# Altium footprint library PLCC.PcbLib: 10 footprints
Each footprint in its own frame and in the unit in brackets; x right, y up, seen from the top. Pads: shape width x height; smd on the part's side, far side on the other; paste and mask are expansions set on the pad; w line width, h text height; cw(c..) or ccw(c..) is an arc to the next point about the centre after c.
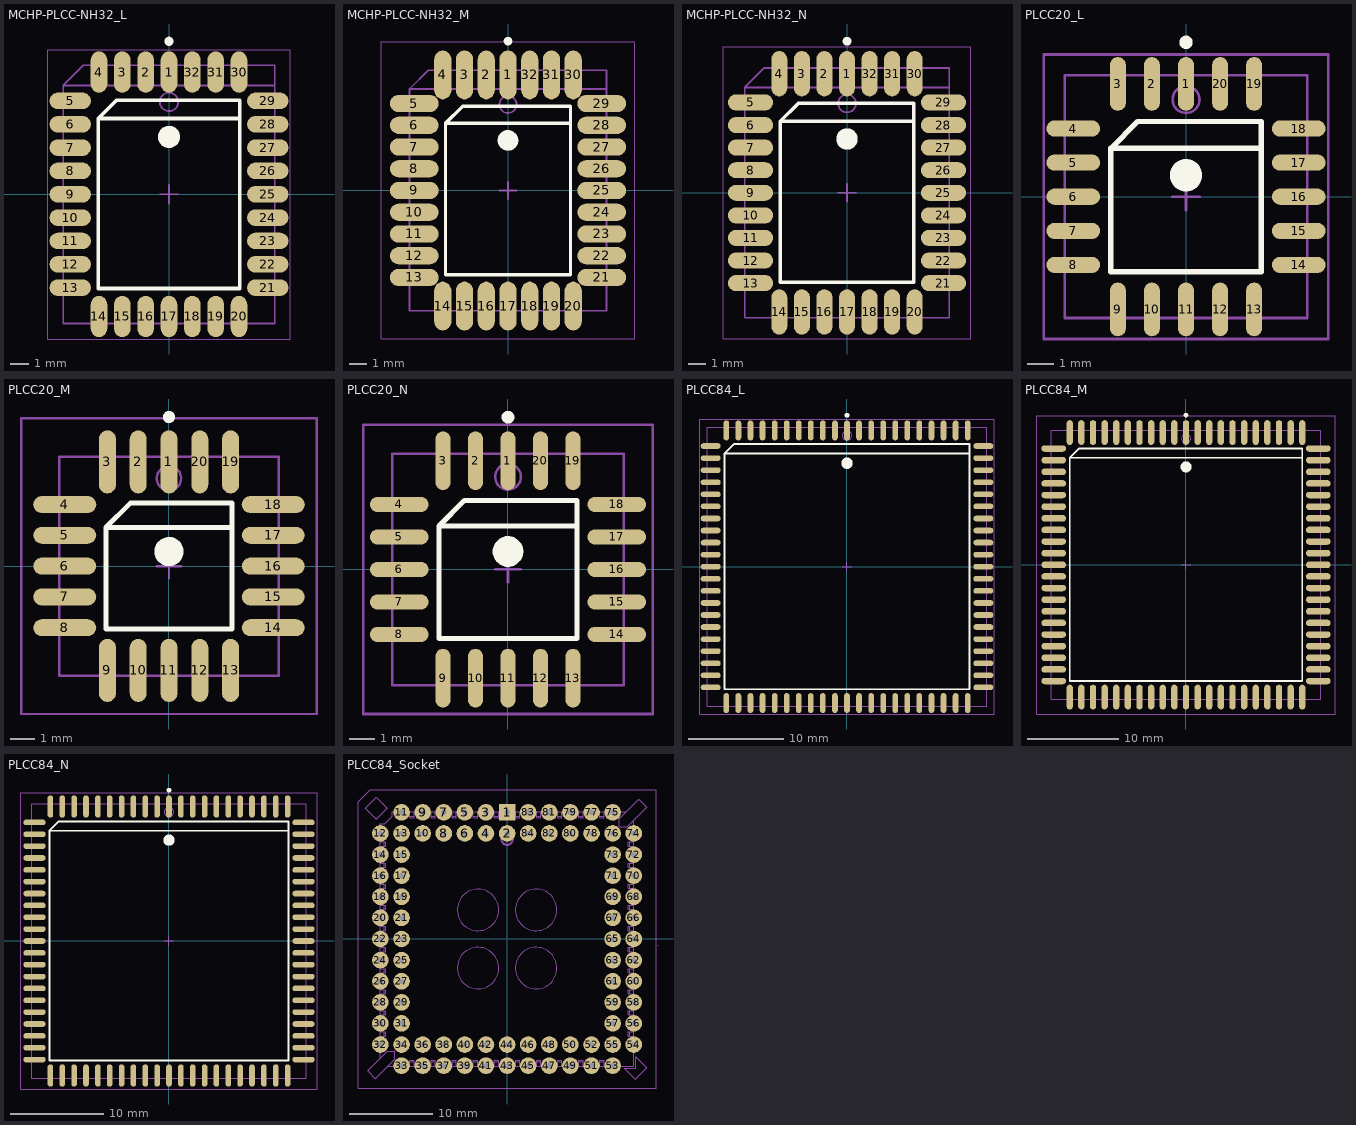
[diagram p0: the footprints below, top view; thin cyan lines are the x and y axes]

## MCHP-PLCC-NH32_L [mm] "PLCC, 32-Leads, Body 13.97x11.43mm, Pitch 1.27mm, IPC High Density"
height 3.56
pads (32):
  oval 0.9x2.25 smd: 1(0,6.65) 2(-1.27,6.65) 3(-2.54,6.65) 4(-3.81,6.65) 14(-3.81,-6.65) 15(-2.54,-6.65) 16(-1.27,-6.65) 17(0,-6.65) 18(1.27,-6.65) 19(2.54,-6.65) 20(3.81,-6.65) 30(3.81,6.65) 31(2.54,6.65) 32(1.27,6.65)
  oval 2.25x0.9 smd: 5(-5.375,5.08) 6(-5.375,3.81) 7(-5.375,2.54) 8(-5.375,1.27) 9(-5.375,0) 10(-5.375,-1.27) 11(-5.375,-2.54) 12(-5.375,-3.81) 13(-5.375,-5.08) 21(5.375,-5.08) 22(5.375,-3.81) 23(5.375,-2.54) 24(5.375,-1.27) 25(5.375,0) 26(5.375,1.27) 27(5.375,2.54) 28(5.375,3.81) 29(5.375,5.08)
Top Overlay:
  circle w0.25: c0,8.325 r0.125
  circle w0.6: c0,3.125 r0.3
  lines w0.2: 3.85,4.125 -3.85,4.125 ; -3.85,4.125 -2.85,5.125 3.85,5.125 3.85,-5.125 -3.85,-5.125 -3.85,4.125
Mechanical 13:
  circle w0.1: c0,5.025 r0.5
  lines w0.1: 5.755,5.925 -5.755,5.925 ; -5.755,5.925 -5.755,-7.025 5.755,-7.025 5.755,7.025 -4.655,7.025 -5.755,5.925
Mechanical 15:
  lines w0.05: -6.6,-7.875 -6.6,7.875 6.6,7.875 6.6,-7.875 -6.6,-7.875
  lines w0.1: -0.5,0 0.5,0 ; 0,-0.5 0,0.5
3D body: height 3.56, standoff 0.38, extent -5.755,-7.025 5.755,7.025

## MCHP-PLCC-NH32_M [mm] "PLCC, 32-Leads, Body 13.97x11.43mm, Pitch 1.27mm, IPC Low Density"
height 3.56
pads (32):
  oval 1x2.85 smd: 1(0,6.75) 2(-1.27,6.75) 3(-2.54,6.75) 4(-3.81,6.75) 14(-3.81,-6.75) 15(-2.54,-6.75) 16(-1.27,-6.75) 17(0,-6.75) 18(1.27,-6.75) 19(2.54,-6.75) 20(3.81,-6.75) 30(3.81,6.75) 31(2.54,6.75) 32(1.27,6.75)
  oval 2.85x1 smd: 5(-5.475,5.08) 6(-5.475,3.81) 7(-5.475,2.54) 8(-5.475,1.27) 9(-5.475,0) 10(-5.475,-1.27) 11(-5.475,-2.54) 12(-5.475,-3.81) 13(-5.475,-5.08) 21(5.475,-5.08) 22(5.475,-3.81) 23(5.475,-2.54) 24(5.475,-1.27) 25(5.475,0) 26(5.475,1.27) 27(5.475,2.54) 28(5.475,3.81) 29(5.475,5.08)
Top Overlay:
  circle w0.6: c0,2.925 r0.3
  circle w0.25: c0,8.725 r0.125
  lines w0.2: 3.65,3.925 -3.65,3.925 ; -3.65,3.925 -3.65,-4.925 3.65,-4.925 3.65,4.925 -2.65,4.925 -3.65,3.925
Mechanical 13:
  circle w0.1: c0,5.025 r0.5
  lines w0.1: 5.755,5.925 -5.755,5.925 ; -5.755,5.925 -4.655,7.025 5.755,7.025 5.755,-7.025 -5.755,-7.025 -5.755,5.925
Mechanical 15:
  lines w0.05: -7.4,-8.675 7.4,-8.675 7.4,8.675 -7.4,8.675 -7.4,-8.675
  lines w0.1: -0.5,0 0.5,0 ; 0,-0.5 0,0.5
3D body: height 3.56, standoff 0.38, extent -5.755,-7.025 5.755,7.025

## MCHP-PLCC-NH32_N [mm] "PLCC, 32-Leads, Body 13.97x11.43mm, Pitch 1.27mm, IPC Medium Density"
height 3.56
pads (32):
  oval 0.9x2.55 smd: 1(0,6.7) 2(-1.27,6.7) 3(-2.54,6.7) 4(-3.81,6.7) 14(-3.81,-6.7) 15(-2.54,-6.7) 16(-1.27,-6.7) 17(0,-6.7) 18(1.27,-6.7) 19(2.54,-6.7) 20(3.81,-6.7) 30(3.81,6.7) 31(2.54,6.7) 32(1.27,6.7)
  oval 2.55x0.9 smd: 5(-5.425,5.08) 6(-5.425,3.81) 7(-5.425,2.54) 8(-5.425,1.27) 9(-5.425,0) 10(-5.425,-1.27) 11(-5.425,-2.54) 12(-5.425,-3.81) 13(-5.425,-5.08) 21(5.425,-5.08) 22(5.425,-3.81) 23(5.425,-2.54) 24(5.425,-1.27) 25(5.425,0) 26(5.425,1.27) 27(5.425,2.54) 28(5.425,3.81) 29(5.425,5.08)
Top Overlay:
  circle w0.6: c0,3.025 r0.3
  circle w0.25: c0,8.525 r0.125
  lines w0.2: 3.75,4.025 -3.75,4.025 ; -3.75,4.025 -3.75,-5.025 3.75,-5.025 3.75,5.025 -2.75,5.025 -3.75,4.025
Mechanical 13:
  circle w0.1: c0,5.025 r0.5
  lines w0.1: 5.755,5.925 -5.755,5.925 ; -5.755,5.925 -4.655,7.025 5.755,7.025 5.755,-7.025 -5.755,-7.025 -5.755,5.925
Mechanical 15:
  lines w0.05: -6.95,-8.225 6.95,-8.225 6.95,8.225 -6.95,8.225 -6.95,-8.225
  lines w0.1: -0.5,0 0.5,0 ; 0,-0.5 0,0.5
3D body: height 3.56, standoff 0.38, extent -5.755,-7.025 5.755,7.025

## PLCC20_L [mm] "Leaded Chip Carrier, 20-Leads, Body 9x9mm, Pitch 1.27mm, IPC High Density"
height 4.58
pads (20):
  oval 0.6x2 smd: 1(0,4.2) 2(-1.27,4.2) 3(-2.54,4.2) 9(-2.54,-4.2) 10(-1.27,-4.2) 11(0,-4.2) 12(1.27,-4.2) 13(2.54,-4.2) 19(2.54,4.2) 20(1.27,4.2)
  oval 2x0.6 smd: 4(-4.2,2.54) 5(-4.2,1.27) 6(-4.2,0) 7(-4.2,-1.27) 8(-4.2,-2.54) 14(4.2,-2.54) 15(4.2,-1.27) 16(4.2,0) 17(4.2,1.27) 18(4.2,2.54)
Top Overlay:
  circle w0.6: c0,0.8 r0.3
  circle w0.25: c0,5.75 r0.125
  lines w0.2: 2.8,1.8 -2.8,1.8 ; -2.8,1.8 -2.8,-2.8 2.8,-2.8 2.8,2.8 -1.8,2.8 -2.8,1.8
Mechanical 13:
  circle w0.1: c0,3.62 r0.5
  lines w0.1: -4.52,-4.52 4.52,-4.52 4.52,4.52 -4.52,4.52 -4.52,-4.52
Mechanical 15:
  lines w0.1: -0.5,0 0.5,0 ; 0,-0.5 0,0.5 ; -5.3,-5.3 5.3,-5.3 5.3,5.3 -5.3,5.3 -5.3,-5.3
3D body: height 4.58, standoff 0, extent -4.52,-4.52 4.52,4.52

## PLCC20_M [mm] "Leaded Chip Carrier, 20-Leads, Body 9x9mm, Pitch 1.27mm, IPC Low Density"
height 4.58
pads (20):
  oval 0.7x2.6 smd: 1(0,4.3) 2(-1.27,4.3) 3(-2.54,4.3) 9(-2.54,-4.3) 10(-1.27,-4.3) 11(0,-4.3) 12(1.27,-4.3) 13(2.54,-4.3) 19(2.54,4.3) 20(1.27,4.3)
  oval 2.6x0.7 smd: 4(-4.3,2.54) 5(-4.3,1.27) 6(-4.3,0) 7(-4.3,-1.27) 8(-4.3,-2.54) 14(4.3,-2.54) 15(4.3,-1.27) 16(4.3,0) 17(4.3,1.27) 18(4.3,2.54)
Top Overlay:
  circle w0.6: c0,0.6 r0.3
  circle w0.25: c0,6.15 r0.125
  lines w0.2: 2.6,1.6 -2.6,1.6 ; -2.6,1.6 -2.6,-2.6 2.6,-2.6 2.6,2.6 -1.6,2.6 -2.6,1.6
Mechanical 13:
  circle w0.1: c0,3.62 r0.5
  lines w0.1: -4.52,-4.52 4.52,-4.52 4.52,4.52 -4.52,4.52 -4.52,-4.52
Mechanical 15:
  lines w0.1: -0.5,0 0.5,0 ; 0,-0.5 0,0.5 ; -6.1,-6.1 6.1,-6.1 6.1,6.1 -6.1,6.1 -6.1,-6.1
3D body: height 4.58, standoff 0, extent -4.52,-4.52 4.52,4.52

## PLCC20_N [mm] "Leaded Chip Carrier, 20-Leads, Body 9x9mm, Pitch 1.27mm, IPC Medium Density"
height 4.58
pads (20):
  oval 0.6x2.3 smd: 1(0,4.25) 2(-1.27,4.25) 3(-2.54,4.25) 9(-2.54,-4.25) 10(-1.27,-4.25) 11(0,-4.25) 12(1.27,-4.25) 13(2.54,-4.25) 19(2.54,4.25) 20(1.27,4.25)
  oval 2.3x0.6 smd: 4(-4.25,2.54) 5(-4.25,1.27) 6(-4.25,0) 7(-4.25,-1.27) 8(-4.25,-2.54) 14(4.25,-2.54) 15(4.25,-1.27) 16(4.25,0) 17(4.25,1.27) 18(4.25,2.54)
Top Overlay:
  circle w0.25: c0,5.95 r0.125
  circle w0.6: c0,0.7 r0.3
  lines w0.2: 2.7,1.7 -2.7,1.7 ; -2.7,1.7 -1.7,2.7 2.7,2.7 2.7,-2.7 -2.7,-2.7 -2.7,1.7
Mechanical 13:
  circle w0.1: c0,3.62 r0.5
  lines w0.1: -4.52,-4.52 -4.52,4.52 4.52,4.52 4.52,-4.52 -4.52,-4.52
Mechanical 15:
  lines w0.1: -0.5,0 0.5,0 ; 0,-0.5 0,0.5 ; -5.65,-5.65 -5.65,5.65 5.65,5.65 5.65,-5.65 -5.65,-5.65
3D body: height 4.58, standoff 0, extent -4.52,-4.52 4.52,4.52

## PLCC84_L [mm] "Leaded Chip Carrier, 84-Leads, Body 29.3x29.3mm, Pitch 1.27mm, IPC High Density"
height 4.58
pads (84):
  oval 0.6x2.1 smd: 1(0,14.35) 2(-1.27,14.35) 3(-2.54,14.35) 4(-3.81,14.35) 5(-5.08,14.35) 6(-6.35,14.35) 7(-7.62,14.35) 8(-8.89,14.35) 9(-10.16,14.35) 10(-11.43,14.35) 11(-12.7,14.35) 33(-12.7,-14.35) 34(-11.43,-14.35) 35(-10.16,-14.35) 36(-8.89,-14.35) 37(-7.62,-14.35) 38(-6.35,-14.35) 39(-5.08,-14.35) 40(-3.81,-14.35) 41(-2.54,-14.35) 42(-1.27,-14.35) 43(0,-14.35) 44(1.27,-14.35) 45(2.54,-14.35) 46(3.81,-14.35) 47(5.08,-14.35) 48(6.35,-14.35) 49(7.62,-14.35) 50(8.89,-14.35) 51(10.16,-14.35) 52(11.43,-14.35) 53(12.7,-14.35) 75(12.7,14.35) 76(11.43,14.35) 77(10.16,14.35) 78(8.89,14.35) 79(7.62,14.35) 80(6.35,14.35) 81(5.08,14.35) 82(3.81,14.35) 83(2.54,14.35) 84(1.27,14.35)
  oval 2.1x0.6 smd: 12(-14.35,12.7) 13(-14.35,11.43) 14(-14.35,10.16) 15(-14.35,8.89) 16(-14.35,7.62) 17(-14.35,6.35) 18(-14.35,5.08) 19(-14.35,3.81) 20(-14.35,2.54) 21(-14.35,1.27) 22(-14.35,0) 23(-14.35,-1.27) 24(-14.35,-2.54) 25(-14.35,-3.81) 26(-14.35,-5.08) 27(-14.35,-6.35) 28(-14.35,-7.62) 29(-14.35,-8.89) 30(-14.35,-10.16) 31(-14.35,-11.43) 32(-14.35,-12.7) 54(14.35,-12.7) 55(14.35,-11.43) 56(14.35,-10.16) 57(14.35,-8.89) 58(14.35,-7.62) 59(14.35,-6.35) 60(14.35,-5.08) 61(14.35,-3.81) 62(14.35,-2.54) 63(14.35,-1.27) 64(14.35,0) 65(14.35,1.27) 66(14.35,2.54) 67(14.35,3.81) 68(14.35,5.08) 69(14.35,6.35) 70(14.35,7.62) 71(14.35,8.89) 72(14.35,10.16) 73(14.35,11.43) 74(14.35,12.7)
Top Overlay:
  circle w0.25: c0,15.95 r0.125
  circle w0.6: c0,10.9 r0.3
  lines w0.2: 12.9,11.9 -12.9,11.9 ; -12.9,11.9 -11.9,12.9 12.9,12.9 12.9,-12.9 -12.9,-12.9 -12.9,11.9
Mechanical 13:
  circle w0.1: c0,13.805 r0.5
  lines w0.1: -14.705,-14.705 -14.705,14.705 14.705,14.705 14.705,-14.705 -14.705,-14.705
Mechanical 15:
  lines w0.1: -0.5,0 0.5,0 ; 0,-0.5 0,0.5 ; -15.5,-15.5 -15.5,15.5 15.5,15.5 15.5,-15.5 -15.5,-15.5
3D body: height 4.58, standoff 0, extent -14.705,-14.705 14.705,14.705

## PLCC84_M [mm] "Leaded Chip Carrier, 84-Leads, Body 29.3x29.3mm, Pitch 1.27mm, IPC Low Density"
height 4.58
pads (84):
  oval 0.7x2.7 smd: 1(0,14.45) 2(-1.27,14.45) 3(-2.54,14.45) 4(-3.81,14.45) 5(-5.08,14.45) 6(-6.35,14.45) 7(-7.62,14.45) 8(-8.89,14.45) 9(-10.16,14.45) 10(-11.43,14.45) 11(-12.7,14.45) 33(-12.7,-14.45) 34(-11.43,-14.45) 35(-10.16,-14.45) 36(-8.89,-14.45) 37(-7.62,-14.45) 38(-6.35,-14.45) 39(-5.08,-14.45) 40(-3.81,-14.45) 41(-2.54,-14.45) 42(-1.27,-14.45) 43(0,-14.45) 44(1.27,-14.45) 45(2.54,-14.45) 46(3.81,-14.45) 47(5.08,-14.45) 48(6.35,-14.45) 49(7.62,-14.45) 50(8.89,-14.45) 51(10.16,-14.45) 52(11.43,-14.45) 53(12.7,-14.45) 75(12.7,14.45) 76(11.43,14.45) 77(10.16,14.45) 78(8.89,14.45) 79(7.62,14.45) 80(6.35,14.45) 81(5.08,14.45) 82(3.81,14.45) 83(2.54,14.45) 84(1.27,14.45)
  oval 2.7x0.7 smd: 12(-14.45,12.7) 13(-14.45,11.43) 14(-14.45,10.16) 15(-14.45,8.89) 16(-14.45,7.62) 17(-14.45,6.35) 18(-14.45,5.08) 19(-14.45,3.81) 20(-14.45,2.54) 21(-14.45,1.27) 22(-14.45,0) 23(-14.45,-1.27) 24(-14.45,-2.54) 25(-14.45,-3.81) 26(-14.45,-5.08) 27(-14.45,-6.35) 28(-14.45,-7.62) 29(-14.45,-8.89) 30(-14.45,-10.16) 31(-14.45,-11.43) 32(-14.45,-12.7) 54(14.45,-12.7) 55(14.45,-11.43) 56(14.45,-10.16) 57(14.45,-8.89) 58(14.45,-7.62) 59(14.45,-6.35) 60(14.45,-5.08) 61(14.45,-3.81) 62(14.45,-2.54) 63(14.45,-1.27) 64(14.45,0) 65(14.45,1.27) 66(14.45,2.54) 67(14.45,3.81) 68(14.45,5.08) 69(14.45,6.35) 70(14.45,7.62) 71(14.45,8.89) 72(14.45,10.16) 73(14.45,11.43) 74(14.45,12.7)
Top Overlay:
  circle w0.25: c0,16.35 r0.125
  circle w0.6: c0,10.7 r0.3
  lines w0.2: 12.7,11.7 -12.7,11.7 ; -12.7,11.7 -11.7,12.7 12.7,12.7 12.7,-12.7 -12.7,-12.7 -12.7,11.7
Mechanical 13:
  circle w0.1: c0,13.805 r0.5
  lines w0.1: -14.705,-14.705 -14.705,14.705 14.705,14.705 14.705,-14.705 -14.705,-14.705
Mechanical 15:
  lines w0.1: -0.5,0 0.5,0 ; 0,-0.5 0,0.5 ; -16.3,-16.3 -16.3,16.3 16.3,16.3 16.3,-16.3 -16.3,-16.3
3D body: height 4.58, standoff 0, extent -14.705,-14.705 14.705,14.705

## PLCC84_N [mm] "Leaded Chip Carrier, 84-Leads, Body 29.3x29.3mm, Pitch 1.27mm, IPC Medium Density"
height 4.58
pads (84):
  oval 0.6x2.4 smd: 1(0,14.4) 2(-1.27,14.4) 3(-2.54,14.4) 4(-3.81,14.4) 5(-5.08,14.4) 6(-6.35,14.4) 7(-7.62,14.4) 8(-8.89,14.4) 9(-10.16,14.4) 10(-11.43,14.4) 11(-12.7,14.4) 33(-12.7,-14.4) 34(-11.43,-14.4) 35(-10.16,-14.4) 36(-8.89,-14.4) 37(-7.62,-14.4) 38(-6.35,-14.4) 39(-5.08,-14.4) 40(-3.81,-14.4) 41(-2.54,-14.4) 42(-1.27,-14.4) 43(0,-14.4) 44(1.27,-14.4) 45(2.54,-14.4) 46(3.81,-14.4) 47(5.08,-14.4) 48(6.35,-14.4) 49(7.62,-14.4) 50(8.89,-14.4) 51(10.16,-14.4) 52(11.43,-14.4) 53(12.7,-14.4) 75(12.7,14.4) 76(11.43,14.4) 77(10.16,14.4) 78(8.89,14.4) 79(7.62,14.4) 80(6.35,14.4) 81(5.08,14.4) 82(3.81,14.4) 83(2.54,14.4) 84(1.27,14.4)
  oval 2.4x0.6 smd: 12(-14.4,12.7) 13(-14.4,11.43) 14(-14.4,10.16) 15(-14.4,8.89) 16(-14.4,7.62) 17(-14.4,6.35) 18(-14.4,5.08) 19(-14.4,3.81) 20(-14.4,2.54) 21(-14.4,1.27) 22(-14.4,0) 23(-14.4,-1.27) 24(-14.4,-2.54) 25(-14.4,-3.81) 26(-14.4,-5.08) 27(-14.4,-6.35) 28(-14.4,-7.62) 29(-14.4,-8.89) 30(-14.4,-10.16) 31(-14.4,-11.43) 32(-14.4,-12.7) 54(14.4,-12.7) 55(14.4,-11.43) 56(14.4,-10.16) 57(14.4,-8.89) 58(14.4,-7.62) 59(14.4,-6.35) 60(14.4,-5.08) 61(14.4,-3.81) 62(14.4,-2.54) 63(14.4,-1.27) 64(14.4,0) 65(14.4,1.27) 66(14.4,2.54) 67(14.4,3.81) 68(14.4,5.08) 69(14.4,6.35) 70(14.4,7.62) 71(14.4,8.89) 72(14.4,10.16) 73(14.4,11.43) 74(14.4,12.7)
Top Overlay:
  circle w0.6: c0,10.8 r0.3
  circle w0.25: c0,16.15 r0.125
  lines w0.2: 12.8,11.8 -12.8,11.8 ; -12.8,11.8 -12.8,-12.8 12.8,-12.8 12.8,12.8 -11.8,12.8 -12.8,11.8
Mechanical 13:
  circle w0.1: c0,13.805 r0.5
  lines w0.1: -14.705,-14.705 14.705,-14.705 14.705,14.705 -14.705,14.705 -14.705,-14.705
Mechanical 15:
  lines w0.1: -0.5,0 0.5,0 ; 0,-0.5 0,0.5 ; -15.85,-15.85 15.85,-15.85 15.85,15.85 -15.85,15.85 -15.85,-15.85
3D body: height 4.58, standoff 0, extent -14.705,-14.705 14.705,14.705

## PLCC84_Socket [mm] "Leaded Chip Carrier, 84-Leads, Body 29.3x29.3mm, Pitch 1.27mm, IPC Low Density"
height 4.58
pads (84):
  rect 2x2 hole 0.65: 1(0,15.24)
  round 2 hole 0.65: 2(0,12.7) 3(-2.54,15.24) 4(-2.54,12.7) 5(-5.08,15.24) 6(-5.08,12.7) 7(-7.62,15.24) 8(-7.62,12.7) 9(-10.16,15.24) 10(-10.16,12.7) 11(-12.7,15.24) 12(-15.24,12.7) 13(-12.7,12.7) 14(-15.24,10.16) 15(-12.7,10.16) 16(-15.24,7.62) 17(-12.7,7.62) 18(-15.24,5.08) 19(-12.7,5.08) 20(-15.24,2.54) 21(-12.7,2.54) 22(-15.24,0) 23(-12.7,0) 24(-15.24,-2.54) 25(-12.7,-2.54) 26(-15.24,-5.08) 27(-12.7,-5.08) 28(-15.24,-7.62) 29(-12.7,-7.62) 30(-15.24,-10.16) 31(-12.7,-10.16) 32(-15.24,-12.7) 33(-12.7,-15.24) 34(-12.7,-12.7) 35(-10.16,-15.24) 36(-10.16,-12.7) 37(-7.62,-15.24) 38(-7.62,-12.7) 39(-5.08,-15.24) 40(-5.08,-12.7) 41(-2.54,-15.24) 42(-2.54,-12.7) 43(0,-15.24) 44(0,-12.7) 45(2.54,-15.24) 46(2.54,-12.7) 47(5.08,-15.24) 48(5.08,-12.7) 49(7.62,-15.24) 50(7.62,-12.7) 51(10.16,-15.24) 52(10.16,-12.7) 53(12.7,-15.24) 54(15.24,-12.7) 55(12.7,-12.7) 56(15.24,-10.16) 57(12.7,-10.16) 58(15.24,-7.62) 59(12.7,-7.62) 60(15.24,-5.08) 61(12.7,-5.08) 62(15.24,-2.54) 63(12.7,-2.54) 64(15.24,0) 65(12.7,0) 66(15.24,2.54) 67(12.7,2.54) 68(15.24,5.08) 69(12.7,5.08) 70(15.24,7.62) 71(12.7,7.62) 72(15.24,10.16) 73(12.7,10.16) 74(15.24,12.7) 75(12.7,15.24) 76(12.7,12.7) 77(10.16,15.24) 78(10.16,12.7) 79(7.62,15.24) 80(7.62,12.7) 81(5.08,15.24) 82(5.08,12.7) 83(2.54,15.24) 84(2.54,12.7)
Top Layer:
  lines w0.003: 18.145,-0.725 18.16,-0.74
Mechanical 1:
  drawing of 856 lines, arcs and shapes, not listed
3D body "10787.stp": height 8.64, standoff -3.11, extent -17.94,-17.94 17.94,17.94
3D body: height 9.66, standoff 5.08, extent -14.705,-14.705 14.705,14.705